# Altium schematic symbol library PrISUm-Discrete.SchLib: 36 symbols
Pins are listed as number, name and electrical type; pins without a type are passive.

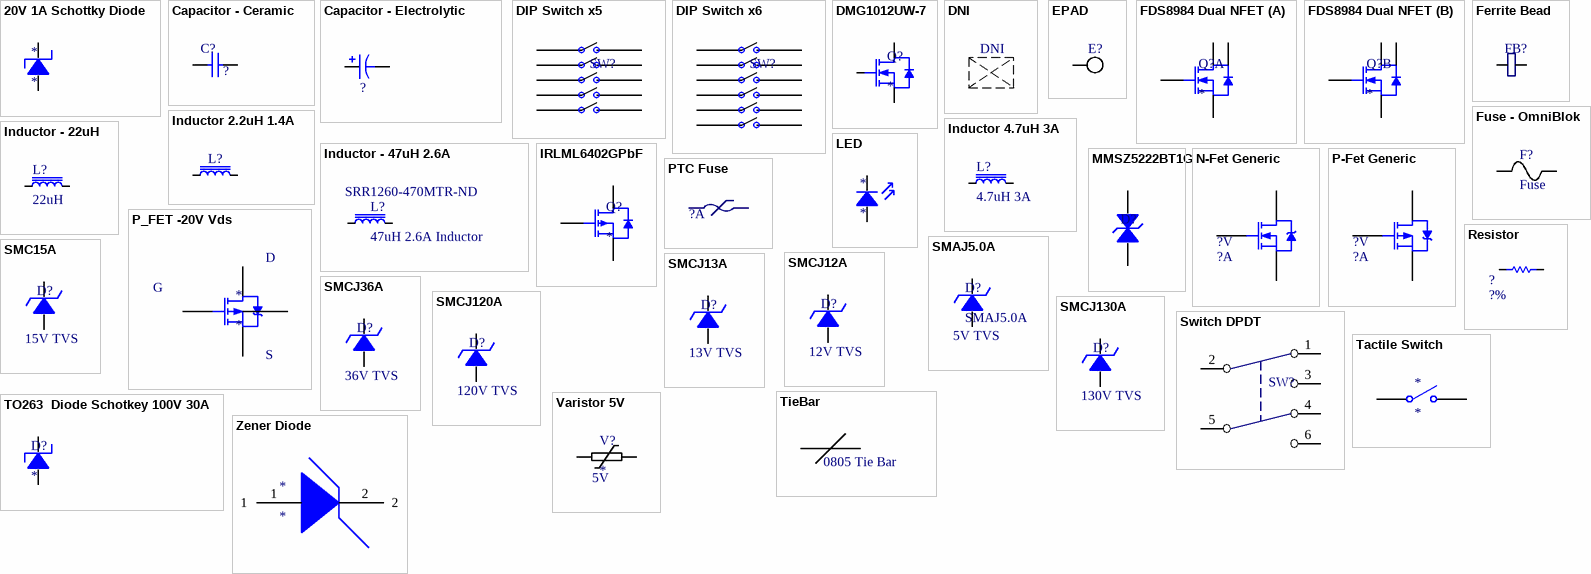
[diagram p0: symbols 20V 1A Schottky Diode to Zener Diode]

## 20V 1A Schottky Diode
designator *
ComponentLink1Description: Datasheet; ComponentLink1URL: http://www.onsemi.com/pub/Collateral/NSR1020MW2T1-D.PDF
footprint SOD-323
pins: 1, 2

## Capacitor - Ceramic
designator C?  (value not drawn)
Digikey: ?; Datasheet: ?; Value: ?
footprint 0603C (0603)
footprint 0805C (0805)
footprint 1206C
pins: 1, 2

## Capacitor - Electrolytic
designator C?  (value not drawn)
Digikey: ?; Datasheet: ?; Value: ?
pins: 1, 2

## DIP Switch x5
designator SW?, comment DIP  (value not drawn)
5x SPST DIP Switch Array; Datasheet: http://www.ctscorp.com/wp-content/uploads/2015/11/219.pdf; Digikey: http://www.digikey.com/product-detail/en/cts-electrocomponents/219-5LPST/CT2195LPST-ND/223172; Supplier 1: Digi-Key; Supplier Part Number 1: CT2195LPST-ND
footprint DIP Array (10 Pad .1" DIP Switch Array)
pins: 1, 2, 3, 4, 5, 6, 7, 8, 9, 10

## DIP Switch x6
designator SW?, comment DIP  (value not drawn)
5x SPST DIP Switch Array; Datasheet: http://www.ctscorp.com/wp-content/uploads/2015/11/219.pdf; Digikey: http://www.digikey.com/product-detail/en/cts-electrocomponents/219-6LPST/CT2196LPST-ND/223175; Supplier 1: Digi-Key; Supplier Part Number 1: CT2195LPST-ND
footprint DIP Array6 (10 Pad .1" DIP Switch Array)
pins: 1, 2, 3, 4, 5, 6, 7, 8, 9, 10, 11, 12

## DMG1012UW-7
designator Q?
MOSFET N-CH 20V 1A SOT323; ComponentLink1URL: http://www.nxp.com/documents/data_sheet/2N7002E.pdf; ComponentLink1Description: Datasheet
footprint SOT323-3AM (SOT323, 3-Leads, Body 2.0x1.3mm, Pitch 0.65mm, Lead Span 2.1mm, IPC Low Density)
pins: 1 G, 2 S, 3 D

## DNI
designator DNI, comment DO NOT INSTALL  (value not drawn)  (graphical)

## EPAD
designator E?  (value not drawn)  (no BOM)
Pad for probing signals
footprint EPAD
pins: 1

## FDS8984 Dual NFET
designator Q?
Fairchild FDS8984; Vgs: 2.5V; Current Max: 7A; Vds: 30V; Digikey: http://www.digikey.com/product-detail/en/fairchild-semiconductor/FDS8984/FDS8984CT-ND/1245074; Datasheet: https://www.fairchildsemi.com/datasheets/FD/FDS8984.pdf
footprint SOIC-8 (SOIC, 8-Leads, Body 5.0x4.0mm (max), Pitch 1.27mm, IPC High Density)
part A pins: 1 S1, 2 G1, 7 D1, 8 D1
part B pins: 3 S2, 4 G2, 5 D2, 6 2

## Ferrite Bead
designator FB?  (value not drawn)
1k @ 100MHz 200mA MAX; Digikey: http://www.digikey.com/product-detail/en/wurth-electronics-inc/74279266/732-4484-1-ND/3907313; Datasheet: http://katalog.we-online.de/pbs/datasheet/74279266.pdf; Supplier 1: Digi-Key; Supplier Part Number 1: 732-4484-2-ND
footprint 0603C (0603)
pins: 1, 2

## Fuse - OmniBlok
designator F?, comment Fuse
OmniBlok fuse Holder; Digikey-Socket: http://www.digikey.com/product-detail/en/littelfuse-inc/01550900M/F1889-ND/2519878; Digikey-Fuse: http://www.digikey.com/product-detail/en/littelfuse-inc/0451001.MRL/F2577CT-ND/813055
footprint OMNIBLOCK FUSE HOLDER
pins: 1, 2

## Inductor 2.2uH 1.4A
designator L?  (value not drawn)
Supplier 1: Digi-Key; Supplier Part Number 1: 490-5344-1-ND; Datasheet: http://search.murata.co.jp/Ceramy/image/img/PDF/ENG/L0075S0103LQH3NP_J0.pdf; Digikey: http://www.digikey.com/product-detail/en/murata-electronics-north-america/LQH3NPN2R2NJ0L/490-5344-1-ND/2122523
footprint 1212 Inductor
pins: 1, 2

## Inductor 4.7uH 3A
designator L?, comment 4.7uH 3A
Power Inductor 4.7uH 3A; Datasheet: http://www.bourns.com/docs/Product-Datasheets/SRN6045.pdf; Digikey: http://www.digikey.com/product-detail/en/bourns-inc/SRN6045-4R7Y/SRN6045-4R7YCT-ND/2756161
footprint INDUCTOR-SRN6045 SERIES
pins: 1, 2

## Inductor - 22uH
designator L?, comment 22uH
Digikey: ?; Datasheet: ?
pins: 1, 2

## Inductor - 47uH 2.6A
designator L?, comment 47uH 2.6A Inductor  Supplier Part Number 1: SRR1260-470MTR-ND
Datasheet: http://www.bourns.com/docs/Product-Datasheets/SRR1260.pdf; Digikey: http://www.digikey.com/product-detail/en/bourns-inc/SRR1260-470M/SRR1260-470MCT-ND/2127419; Supplier 1: Digi-Key
footprint Inductor-SRR1260 Series
pins: 1, 2

## IRLML6402GPbF
designator Q?
P-Fet  3.7A 20V; ComponentLink1URL: http://www.digikey.com/product-detail/en/infineon-technologies-americas-corp/IRLML6402TRPBF/IRLML6402PBFCT-ND/812500; ComponentLink1Description: http://www.irf.com/product-info/datasheets/data/irlml6402.pdf
footprint SOT-23
pins: 1 G, 2 S, 3 D

## LED
designator *
footprint 0805-LED
pins: 1, 2

## MMSZ5222BT1G
designator D?, comment ESD  (value not drawn)
Zener Diode for ESD Protection; Datasheet: http://www.littelfuse.com/~/media/electronics/datasheets/tvs_diodes/littelfuse_tvs_diode_smaj_datasheet.pdf.pdf; Supplier1: Digikey; Supplier 1: Digi-Key; Supplier Part Number 1: SMAJ12ALFCT-ND
footprint DO-214AC
pins: 1, 2

## N-Fet Generic
designator Q?  Voltage Rating: ?V  Current Rating: ?A  (hidden comment: N-Fet Generic)
VGS Threshold: ?; Digikey: ?; Datasheet: ?
footprint SOT-23
pins: 1 G, 2 D, 3 S

## P-Fet Generic
designator Q?  Voltage Rating: ?V  Current Rating: ?A  (hidden comment: P-Fet Generic)
VGS Threshold: ?V; Digikey: ?; Datasheet: ?
pins: 1 G, 2 D, 3 S

## P_FET -20V Vds
designator *
footprint P_FET -20V Vds (http://www.ti.com/lit/ds/symlink/csd25213w10.pdf)
pins: 1 SS, 2 D, 3 G, 4 S

## PTC Fuse
designator F?  value ?A  (hidden comment: PTC Fuse)
Digikey: ?; Datasheet: ?
footprint 1206F
pins: 1, 2

## Resistor
designator R?  Tolerance: ?%  (hidden comment: Resistor)
Digikey: ?; Datasheet: ?; Value: ?
footprint 0603R (0603)
footprint 0805R (0805)
footprint RESISTOR_TH
footprint 1206R
pins: 1, 2

## SMAJ5.0A
designator D?  value 5V TVS
5V TVS; Manufacturer: Littelfuse Inc; Voltage - Breakdown: 6.4V; Power (Watts): 400W; Polarization: Unidirectional; Created: 10/27/10; ComponentLink1URL: http://www.littelfuse.com/~/media/Electronics_Technical/Datasheets/TVS_Diodes/Littelfuse_TVS_Diode_SMAJ_Datasheet.pdf; ComponentLink1Description: Datasheet; Supplier 1: Digi-Key; Supplier 2: Digi-Key; Manufacturer Part Number: SMAJ5.0; RoHS: RoHS Compliant; Category: Circuit Protection; Stock 2: 12488; Pricing 2: 1=0.42, 10=0.352, 25=0.3088, 100=0.2642, 250=0.22916, 500=0.19408, 1000=0.14963, 2500=0.1368 (USD); Packaging: Cut Tape (CT); Voltage - Reverse Standoff (Typ): 5V; Mounting Type: Surface Mount; Package / Case: DO-214AC, SMA; Supplier Device Package: DO-214AC (SMA); Supplier Part Number 1: F5678DKR-ND; Supplier Part Number 2: F5678CT-ND
footprint DO214 (DO-214-AC/SMA; 2 C-Bend Leads; Body 5.3 x 2.6 mm, inc. leads (LxW))
pins: 1, 2

## SMC15A
designator D?  value 15V TVS  (hidden comment: *)
12V TVS; Digikey: http://www.digikey.com/product-detail/en/bourns-inc/1.5SMC15A/1.5SMC15ABB-ND/5320371; Datasheet: http://www.bourns.com/data/global/pdfs/1.5SMC.pdf; Supplier 1: Digi-Key; Supplier Part Number 1: 1.5SMC15ABB-ND
footprint DO214 (DO-214-AC/SMA; 2 C-Bend Leads; Body 5.3 x 2.6 mm, inc. leads (LxW))
pins: 1, 2

## SMCJ12A
designator D?  value 12V TVS  (hidden comment: *)
12V TVS; Created: 10/27/10; ComponentLink1URL: http://www.littelfuse.com/data/en/Data_Sheets/Littelfuse_TVS_Diode_SMCJ.pdf; ComponentLink1Description: Datasheet
footprint DO214 (DO-214-AC/SMA; 2 C-Bend Leads; Body 5.3 x 2.6 mm, inc. leads (LxW))
pins: 1, 2

## SMCJ13A
designator D?  value 13V TVS  (hidden comment: *)
13V TVS; Created: 10/27/10; ComponentLink1URL: http://www.littelfuse.com/data/en/Data_Sheets/Littelfuse_TVS_Diode_SMCJ.pdf; ComponentLink1Description: Datasheet
footprint DO214 (DO-214-AC/SMA; 2 C-Bend Leads; Body 5.3 x 2.6 mm, inc. leads (LxW))
pins: 1, 2

## SMCJ36A
designator D?  value 36V TVS  (hidden comment: *)
36V TVS; Created: 10/27/10; ComponentLink1URL: http://www.littelfuse.com/data/en/Data_Sheets/Littelfuse_TVS_Diode_SMCJ.pdf; ComponentLink1Description: Datasheet
footprint DO214 (DO-214-AC/SMA; 2 C-Bend Leads; Body 5.3 x 2.6 mm, inc. leads (LxW))
pins: 1, 2

## SMCJ120A
designator D?  value 120V TVS  (hidden comment: *)
120V TVS; Created: 10/27/10; ComponentLink1URL: http://www.littelfuse.com/data/en/Data_Sheets/Littelfuse_TVS_Diode_SMCJ.pdf; ComponentLink1Description: Datasheet
footprint DO214 (DO-214-AC/SMA; 2 C-Bend Leads; Body 5.3 x 2.6 mm, inc. leads (LxW))
pins: 1, 2

## SMCJ130A
designator D?  value 130V TVS  (hidden comment: *)
130V TVS; Created: 10/27/10; ComponentLink1URL: http://www.littelfuse.com/data/en/Data_Sheets/Littelfuse_TVS_Diode_SMCJ.pdf; ComponentLink1Description: Datasheet
footprint DO214 (DO-214-AC/SMA; 2 C-Bend Leads; Body 5.3 x 2.6 mm, inc. leads (LxW))
pins: 1, 2

## Switch DPDT
designator SW?  (value not drawn)
DPDT Switch 6V 300mA; Supplier 1: Digi-Key; Digikey: http://www.digikey.com/product-detail/en/c-k-components/JS202011SCQN/401-2002-1-ND/1640098; Datasheet: http://www.ck-components.com/14398/js_7jan16.pdf/; Supplier Part Number 1: 401-2002-2-ND
footprint DPDT Switch
pins: 1 30, 2 29, 3 28, 4 27, 5 32, 6 31

## Tactile Switch
designator *
footprint SWITCH_TH (B3F-1000)
pins: 1 COMMON, 2 NO

## TieBar
designator T?, comment 0805 Tie Bar  (net tie, no BOM)
footprint 0805 Tie Bar (0805)
pins: 1, 2

## TO263  Diode Schotkey 100V 30A
designator D?
Schotkey diode 100V 30A; Datasheet: http://www.vishay.com/docs/88941/v30100s.pdf; Digikey: http://www.digikey.com/product-detail/en/vishay-semiconductor-diodes-division/VB30100S-E3-8W/VB30100S-E3-8WGICT-ND/1618566
footprint TO263
pins: 1, 2

## Varistor 5V
designator V?  Working Voltage: 5V
Varistor for protection of 5V interfaces; Digikey: http://www.digikey.com/product-detail/en/avx-corporation/VC060305A150DP/478-3652-1-ND/1092103; Datasheet: http://datasheets.avx.com/tguard.pdf
footprint 0603R (0603)
pins: 1, 2

## Zener Diode
designator *
ComponentLink1Description: Datasheet; ComponentLink1URL: http://www.onsemi.com/pub/Collateral/MM3Z9V1B-D.pdf; ComponentLink2Description: Digikey; ComponentLink2URL: https://www.digikey.com/product-detail/en/on-semiconductor/MM3Z5V6B/MM3Z5V6BCT-ND/1626901
footprint SOD-323F
pins: 1, 2